# Altium footprint library SuperMiniCar.PcbLib: 38 footprints (part 3 of 3)
Each footprint in its own frame and in the unit in brackets; x right, y up, seen from the top. Pads: shape width x height; smd on the part's side, far side on the other; paste and mask are expansions set on the pad; w line width, h text height; cw(c..) or ccw(c..) is an arc to the next point about the centre after c.
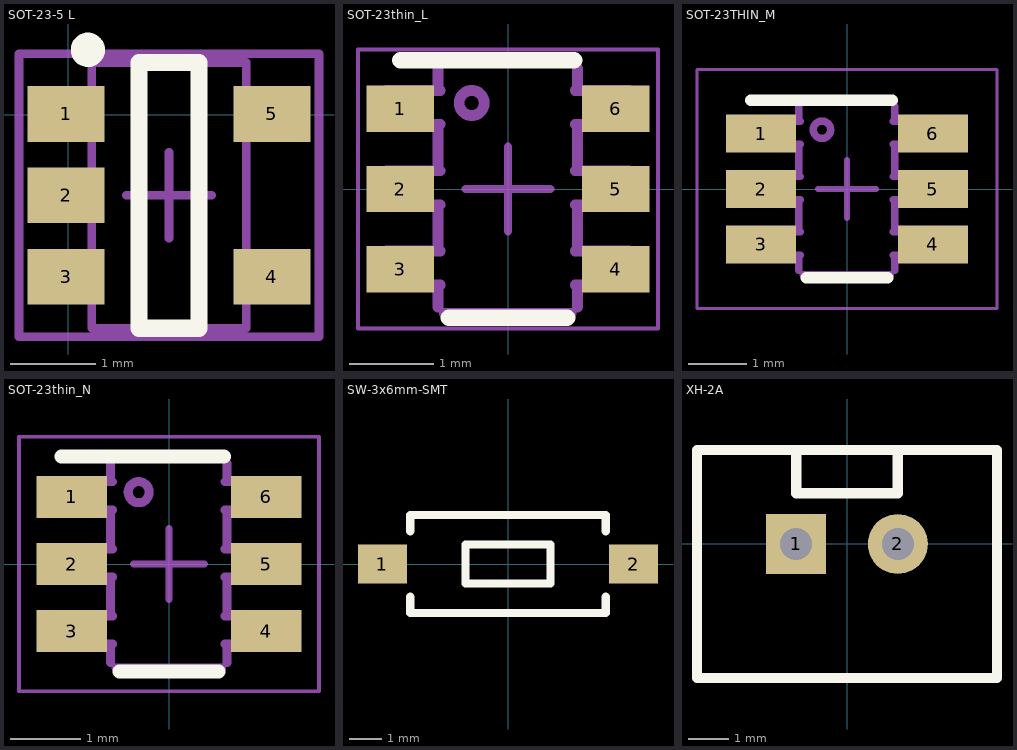
[diagram p2: the footprints below, top view; thin cyan lines are the x and y axes]

## SOT-23-5 L [mm]
pads (5):
  rect 0.9x0.65 smd: 1(-0.026,0.01) 2(-0.026,-0.94) 3(-0.026,-1.89) 4(2.374,-1.89) 5(2.374,0.01)
Top Overlay:
  circle w0.2: c0.228,0.758 r0.1
  lines w0.2: 0.824,-2.49 1.524,-2.49 1.524,0.61 0.824,0.61 0.824,-2.49
Mechanical 13:
  lines w0.1: 0.274,-2.49 0.274,0.61 2.074,0.61 2.074,-2.49 0.274,-2.49
Mechanical 15:
  lines w0.1: 0.674,-0.94 1.674,-0.94 ; 1.174,-1.44 1.174,-0.44 ; -0.576,-2.59 -0.576,0.71 2.924,0.71 2.924,-2.59 -0.576,-2.59
3D body: height 1.09, standoff -0.01, extent -0.201,-2.399 2.599,0.5

## SOT-23thin_L [mm]
pads (6):
  rect 0.8x0.55 smd paste+0 mask+0.051: 1(-1.275,0.95) 2(-1.275,0) 3(-1.275,-0.95) 4(1.275,-0.95) 5(1.275,0) 6(1.275,0.95)
Top Overlay:
  lines w0.2: -1.27,1.524 0.783,1.524 ; -0.7,-1.524 0.7,-1.524
Mechanical 13:
  lines w0.127: -0.828,-1.395 -0.828,-1.392 -0.828,-1.135 ; -0.828,-0.735 -0.828,-0.185 ; -0.828,0.215 -0.828,0.765 ; -0.828,1.165 -0.828,1.422 -0.828,1.426 ; -0.801,-1.135 -0.903,-1.135 -1.128,-1.135 -1.159,-1.135 -1.251,-1.135 -1.437,-1.135 -1.437,-0.735 -1.251,-0.735 -1.159,-0.735 -1.128,-0.735 -0.903,-0.735 -0.801,-0.735 ; -0.801,-0.185 -0.903,-0.185 -1.128,-0.185 -1.159,-0.185 -1.251,-0.185 -1.437,-0.185 -1.437,0.215 -1.251,0.215 -1.159,0.215 -1.128,0.215 -0.903,0.215 -0.801,0.215 ; -0.801,0.765 -0.903,0.765 -1.128,0.765 -1.159,0.765 -1.251,0.765 -1.437,0.765 -1.437,1.165 -1.251,1.165 -1.159,1.165 -1.128,1.165 -0.903,1.165 -0.801,1.165 ; -0.754,-1.47 -0.75,-1.47 0.743,-1.47 0.747,-1.47 ; -0.754,1.5 -0.75,1.5 0.743,1.5 0.747,1.5 ; 0.795,-1.135 0.896,-1.135 1.122,-1.135 1.152,-1.135 1.245,-1.135 1.431,-1.135 1.431,-0.735 1.245,-0.735 1.152,-0.735 1.122,-0.735 0.896,-0.735 0.795,-0.735 ; 0.795,-0.185 0.896,-0.185 1.122,-0.185 1.152,-0.185 1.245,-0.185 1.431,-0.185 1.431,0.215 1.245,0.215 1.152,0.215 1.122,0.215 0.896,0.215 0.795,0.215 ; 0.795,0.765 0.896,0.765 1.122,0.765 1.152,0.765 1.245,0.765 1.431,0.765 1.431,1.165 1.245,1.165 1.152,1.165 1.122,1.165 0.896,1.165 0.795,1.165 ; 0.822,-1.395 0.822,-1.392 0.822,-1.135 ; 0.822,-0.735 0.822,-0.185 ; 0.822,0.215 0.822,0.765 ; 0.822,1.165 0.822,1.422 0.822,1.426 ; -0.578,1.018 ccw(c-0.43,1.018) -0.281,1.018 ccw(c-0.43,1.018) -0.578,1.018
Mechanical 15:
  lines w0.05: -1.775,-1.65 1.775,-1.65 1.775,1.65 -1.775,1.65 -1.775,-1.65
  lines w0.1: -0.5,0 0.5,0 ; 0,-0.5 0,0.5
3D body: height 1.45, standoff 0, extent -1.4,-1.45 1.4,1.45

## SOT-23THIN_M [mm]
pads (6):
  rect 1.2x0.65 smd paste+0 mask+0.051: 1(-1.475,0.95) 2(-1.475,0) 3(-1.475,-0.95) 4(1.475,-0.95) 5(1.475,0) 6(1.475,0.95)
Top Overlay:
  lines w0.2: -1.651,1.524 0.774,1.524 ; -0.7,-1.524 0.7,-1.524
Mechanical 13:
  lines w0.127: -0.828,-1.395 -0.828,-1.392 -0.828,-1.135 ; -0.828,-0.735 -0.828,-0.185 ; -0.828,0.215 -0.828,0.765 ; -0.828,1.165 -0.828,1.422 -0.828,1.426 ; -0.801,-1.135 -0.903,-1.135 -1.128,-1.135 -1.159,-1.135 -1.251,-1.135 -1.437,-1.135 -1.437,-0.735 -1.251,-0.735 -1.159,-0.735 -1.128,-0.735 -0.903,-0.735 -0.801,-0.735 ; -0.801,-0.185 -0.903,-0.185 -1.128,-0.185 -1.159,-0.185 -1.251,-0.185 -1.437,-0.185 -1.437,0.215 -1.251,0.215 -1.159,0.215 -1.128,0.215 -0.903,0.215 -0.801,0.215 ; -0.801,0.765 -0.903,0.765 -1.128,0.765 -1.159,0.765 -1.251,0.765 -1.437,0.765 -1.437,1.165 -1.251,1.165 -1.159,1.165 -1.128,1.165 -0.903,1.165 -0.801,1.165 ; -0.754,-1.47 -0.75,-1.47 0.743,-1.47 0.747,-1.47 ; -0.754,1.5 -0.75,1.5 0.743,1.5 0.747,1.5 ; 0.795,-1.135 0.896,-1.135 1.122,-1.135 1.152,-1.135 1.245,-1.135 1.431,-1.135 1.431,-0.735 1.245,-0.735 1.152,-0.735 1.122,-0.735 0.896,-0.735 0.795,-0.735 ; 0.795,-0.185 0.896,-0.185 1.122,-0.185 1.152,-0.185 1.245,-0.185 1.431,-0.185 1.431,0.215 1.245,0.215 1.152,0.215 1.122,0.215 0.896,0.215 0.795,0.215 ; 0.795,0.765 0.896,0.765 1.122,0.765 1.152,0.765 1.245,0.765 1.431,0.765 1.431,1.165 1.245,1.165 1.152,1.165 1.122,1.165 0.896,1.165 0.795,1.165 ; 0.822,-1.395 0.822,-1.392 0.822,-1.135 ; 0.822,-0.735 0.822,-0.185 ; 0.822,0.215 0.822,0.765 ; 0.822,1.165 0.822,1.422 0.822,1.426 ; -0.578,1.018 cw(c-0.43,1.018) -0.281,1.018 cw(c-0.43,1.018) -0.578,1.018
Mechanical 15:
  lines w0.05: -2.575,-2.05 2.575,-2.05 2.575,2.05 -2.575,2.05 -2.575,-2.05
  lines w0.1: -0.5,0 0.5,0 ; 0,-0.5 0,0.5

## SOT-23thin_N [mm]
pads (6):
  rect 1x0.6 smd paste+0 mask+0.051: 1(-1.375,0.95) 2(-1.375,0) 3(-1.375,-0.95) 4(1.375,-0.95) 5(1.375,0) 6(1.375,0.95)
Top Overlay:
  lines w0.2: -1.524,1.524 0.776,1.524 ; -0.7,-1.524 0.7,-1.524
Mechanical 13:
  lines w0.127: -0.828,-1.395 -0.828,-1.392 -0.828,-1.135 ; -0.828,-0.735 -0.828,-0.185 ; -0.828,0.215 -0.828,0.765 ; -0.828,1.165 -0.828,1.422 -0.828,1.426 ; -0.801,-1.135 -0.903,-1.135 -1.128,-1.135 -1.159,-1.135 -1.251,-1.135 -1.437,-1.135 -1.437,-0.735 -1.251,-0.735 -1.159,-0.735 -1.128,-0.735 -0.903,-0.735 -0.801,-0.735 ; -0.801,-0.185 -0.903,-0.185 -1.128,-0.185 -1.159,-0.185 -1.251,-0.185 -1.437,-0.185 -1.437,0.215 -1.251,0.215 -1.159,0.215 -1.128,0.215 -0.903,0.215 -0.801,0.215 ; -0.801,0.765 -0.903,0.765 -1.128,0.765 -1.159,0.765 -1.251,0.765 -1.437,0.765 -1.437,1.165 -1.251,1.165 -1.159,1.165 -1.128,1.165 -0.903,1.165 -0.801,1.165 ; -0.754,-1.47 -0.75,-1.47 0.743,-1.47 0.747,-1.47 ; -0.754,1.5 -0.75,1.5 0.743,1.5 0.747,1.5 ; 0.795,-1.135 0.896,-1.135 1.122,-1.135 1.152,-1.135 1.245,-1.135 1.431,-1.135 1.431,-0.735 1.245,-0.735 1.152,-0.735 1.122,-0.735 0.896,-0.735 0.795,-0.735 ; 0.795,-0.185 0.896,-0.185 1.122,-0.185 1.152,-0.185 1.245,-0.185 1.431,-0.185 1.431,0.215 1.245,0.215 1.152,0.215 1.122,0.215 0.896,0.215 0.795,0.215 ; 0.795,0.765 0.896,0.765 1.122,0.765 1.152,0.765 1.245,0.765 1.431,0.765 1.431,1.165 1.245,1.165 1.152,1.165 1.122,1.165 0.896,1.165 0.795,1.165 ; 0.822,-1.395 0.822,-1.392 0.822,-1.135 ; 0.822,-0.735 0.822,-0.185 ; 0.822,0.215 0.822,0.765 ; 0.822,1.165 0.822,1.422 0.822,1.426 ; -0.578,1.018 ccw(c-0.43,1.018) -0.281,1.018 ccw(c-0.43,1.018) -0.578,1.018
Mechanical 15:
  lines w0.05: -2.125,-1.8 -2.125,1.8 2.125,1.8 2.125,-1.8 -2.125,-1.8
  lines w0.1: -0.5,0 0.5,0 ; 0,-0.5 0,0.5

## SW-3x6mm-SMT [mm] "两脚贴片轻触开关3x6mm"
pads (2):
  rect 1.5x1.2 smd: 1(-3.85,0) 2(3.85,0)
Top Overlay:
  lines w0.254: -3,-1 -3,-1.5 3,-1.5 3,-1 ; -3,1 -3,1.5 3,1.5 3,1 ; -1.3,-0.6 -1.3,0.6 1.3,0.6 1.3,-0.6 -1.3,-0.6
3D body: height 2.49, standoff 0.1, extent -3.995,-1.825 4.145,1.775

## XH-2A [mm] "2A,2.54mm"
pads (2):
  rect 1.5x1.5 hole 0.8: 1(-1.27,0)
  round 1.5 hole 0.8: 2(1.27,0)
Top Overlay:
  lines w0.254: -1.27,2.35 -1.27,1.27 1.27,1.27 1.27,2.35 ; -3.75,-3.35 3.75,-3.35 3.75,2.35 -3.75,2.35 -3.75,-3.35
3D body: height 7, standoff -4, extent -3.925,-3.525 4.075,2.475